# Altium footprint library SparkFun-Aesthetics.PCBLIB: 85 footprints (part 2 of 6)
Each footprint in its own frame and in the unit in brackets; x right, y up, seen from the top. Pads: shape width x height; smd on the part's side, far side on the other; paste and mask are expansions set on the pad; w line width, h text height; cw(c..) or ccw(c..) is an arc to the next point about the centre after c.
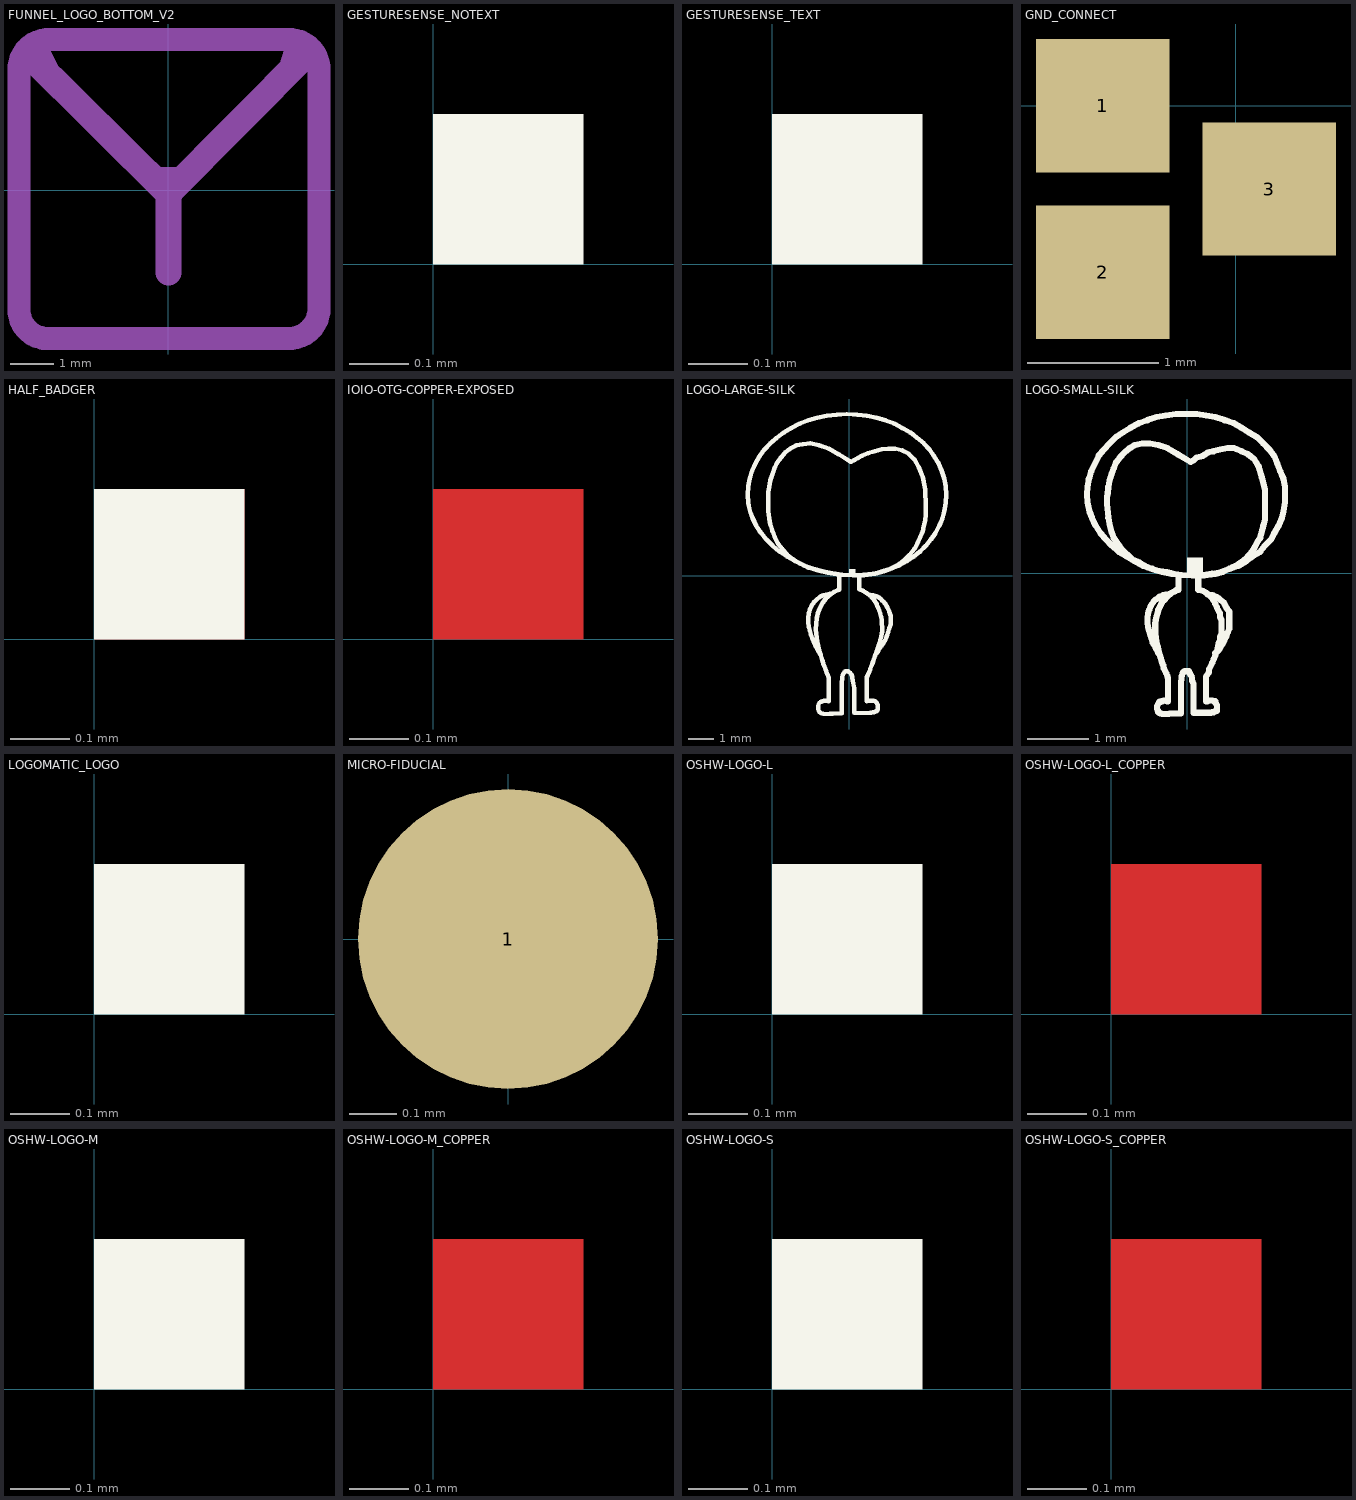
[diagram p1: the footprints below, top view; thin cyan lines are the x and y axes]

## FUNNEL_LOGO_BOTTOM_V2 [mil]
Bottom Overlay:
  region: 0,0 10,0 10,10 0,10
  lines w21: -136,-107 ccw(c-110.01,-109.01) -112,-135 ; -136,-106 -136,112 cw(c-109.01,110.01) -107,137 ; -114,-135 -112,-135 ; -106,137 112,137 cw(c110.01,110.01) 137,108 137,-111 ; 137,-110 cw(c110.01,-108.01) 108,-135 -112,-135
  lines w22: -121,130 -109,106 ; 111,110 118,132
  lines w24: -128,124 1,-4 ; -7,9 5,9 ; 0,-75 0,6 ; 0,-3 128,126

## GESTURESENSE_NOTEXT [mil]
Top Overlay:
  region: 0,0 10,0 10,10 0,10
  region: 0,0 10,0 10,10 0,10
  region: 0,0 10,0 10,10 0,10
  region: 0,0 10,0 10,10 0,10
  region: 0,0 10,0 10,10 0,10
  region: 0,0 10,0 10,10 0,10
  region: 0,0 10,0 10,10 0,10

## GESTURESENSE_TEXT [mil]
Top Overlay:
  region: 0,0 10,0 10,10 0,10
  region: 0,0 10,0 10,10 0,10
  region: 0,0 10,0 10,10 0,10
  region: 0,0 10,0 10,10 0,10
  region: 0,0 10,0 10,10 0,10
  region: 0,0 10,0 10,10 0,10
  region: 0,0 10,0 10,10 0,10
  region: 0,0 10,0 10,10 0,10
  region: 0,0 10,0 10,10 0,10
  region: 0,0 10,0 10,10 0,10
  region: 0,0 10,0 10,10 0,10
  region: 0,0 10,0 10,10 0,10
  region: 0,0 10,0 10,10 0,10
  region: 0,0 10,0 10,10 0,10
  region: 0,0 10,0 10,10 0,10
  region: 0,0 10,0 10,10 0,10
  region: 0,0 10,0 10,10 0,10
  region: 0,0 10,0 10,10 0,10
  region: 0,0 10,0 10,10 0,10
  region: 0,0 10,0 10,10 0,10
  region: 0,0 10,0 10,10 0,10
  region: 0,0 10,0 10,10 0,10
  region: 0,0 10,0 10,10 0,10
  region: 0,0 10,0 10,10 0,10
  region: 0,0 10,0 10,10 0,10
  region: 0,0 10,0 10,10 0,10
  region: 0,0 10,0 10,10 0,10
  region: 0,0 10,0 10,10 0,10
  region: 0,0 10,0 10,10 0,10
  region: 0,0 10,0 10,10 0,10
  region: 0,0 10,0 10,10 0,10
  region: 0,0 10,0 10,10 0,10
  region: 0,0 10,0 10,10 0,10
  region: 0,0 10,0 10,10 0,10
  region: 0,0 10,0 10,10 0,10
  region: 0,0 10,0 10,10 0,10

## GND_CONNECT [mil]
pads (3):
  rect 40x40 smd: 1(-40,0) 2(-40,-50) 3(10,-25)
Mechanical 2:
  text ">NAME" at -35,50 h77.5
Mechanical 4:
  text ">VALUE" at -45,-160 h77.5

## HALF_BADGER [mil]
Top Layer:
  region: 0,0 10,0 10,10 0,10
Top Overlay:
  region: 0,0 10,0 10,10 0,10
  region: 0,0 10,0 10,10 0,10
  region: 0,0 10,0 10,10 0,10
  region: 0,0 10,0 10,10 0,10
  region: 0,0 10,0 10,10 0,10
Top Solder:
  region: 0,0 10,0 10,10 0,10

## IOIO-OTG-COPPER-EXPOSED [mil]
Top Layer:
  region: 0,0 10,0 10,10 0,10
  region: 0,0 10,0 10,10 0,10
  region: 0,0 10,0 10,10 0,10
  region: 0,0 10,0 10,10 0,10
  region: 0,0 10,0 10,10 0,10
  region: 0,0 10,0 10,10 0,10
  region: 0,0 10,0 10,10 0,10
  region: 0,0 10,0 10,10 0,10
  region: 0,0 10,0 10,10 0,10
  region: 0,0 10,0 10,10 0,10
  region: 0,0 10,0 10,10 0,10
Top Solder:
  region: 0,0 10,0 10,10 0,10
  region: 0,0 10,0 10,10 0,10
  region: 0,0 10,0 10,10 0,10
  region: 0,0 10,0 10,10 0,10
  region: 0,0 10,0 10,10 0,10
  region: 0,0 10,0 10,10 0,10
  region: 0,0 10,0 10,10 0,10
  region: 0,0 10,0 10,10 0,10
  region: 0,0 10,0 10,10 0,10
  region: 0,0 10,0 10,10 0,10
  region: 0,0 10,0 10,10 0,10

## LOGO-LARGE-SILK [mil]
Top Overlay:
  drawing of 317 lines, arcs and shapes, not listed

## LOGO-SMALL-SILK [mil]
Top Overlay:
  drawing of 280 lines, arcs and shapes, not listed

## LOGOMATIC_LOGO [mil]
Top Overlay:
  region: 0,0 10,0 10,10 0,10
  region: 0,0 10,0 10,10 0,10
  region: 0,0 10,0 10,10 0,10
  region: 0,0 10,0 10,10 0,10
  region: 0,0 10,0 10,10 0,10
  region: 0,0 10,0 10,10 0,10
  region: 0,0 10,0 10,10 0,10
  region: 0,0 10,0 10,10 0,10
  region: 0,0 10,0 10,10 0,10
  region: 0,0 10,0 10,10 0,10
  region: 0,0 10,0 10,10 0,10
  region: 0,0 10,0 10,10 0,10
  region: 0,0 10,0 10,10 0,10
  region: 0,0 10,0 10,10 0,10
  region: 0,0 10,0 10,10 0,10

## MICRO-FIDUCIAL [mil]
pads (1):
  rrect100% 25x25 smd: 1(0,0)

## OSHW-LOGO-L [mil]
Top Overlay:
  region: 0,0 10,0 10,10 0,10

## OSHW-LOGO-L_COPPER [mil]
Top Layer:
  region: 0,0 10,0 10,10 0,10

## OSHW-LOGO-M [mil]
Top Overlay:
  region: 0,0 10,0 10,10 0,10

## OSHW-LOGO-M_COPPER [mil]
Top Layer:
  region: 0,0 10,0 10,10 0,10

## OSHW-LOGO-S [mil]
Top Overlay:
  region: 0,0 10,0 10,10 0,10

## OSHW-LOGO-S_COPPER [mil]
Top Layer:
  region: 0,0 10,0 10,10 0,10